# Altium footprint library Transistors.PcbLib: 36 footprints (part 3 of 3)
Each footprint in its own frame and in the unit in brackets; x right, y up, seen from the top. Pads: shape width x height; smd on the part's side, far side on the other; paste and mask are expansions set on the pad; w line width, h text height; cw(c..) or ccw(c..) is an arc to the next point about the centre after c.
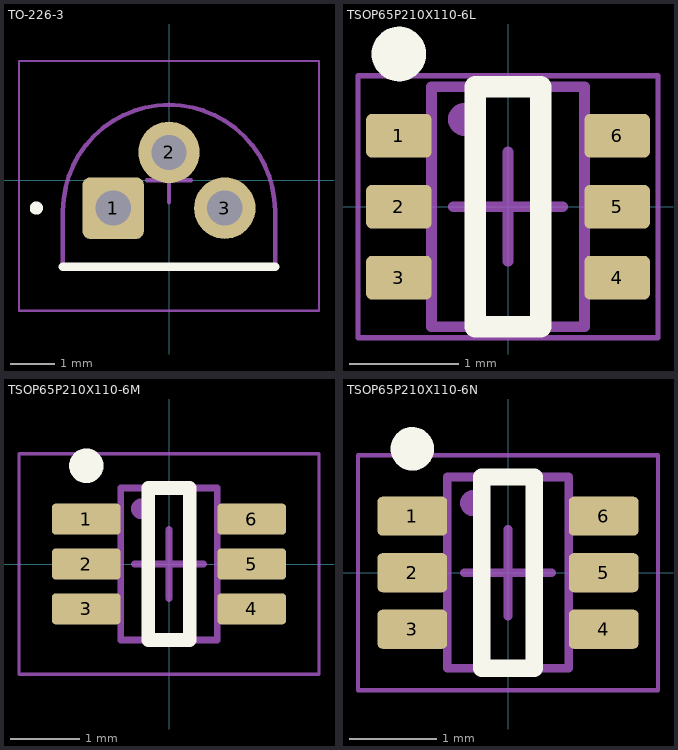
[diagram p2: the footprints below, top view; thin cyan lines are the x and y axes]

## TO-226-3 [mm] "Transistor Outline 3 Leads"
height 5.43
pads (3):
  rrect25% 1.4x1.4 hole 0.8 paste-1000 mask+0.05: 1(-1.27,-0.635)
  round 1.4 hole 0.8 paste-1000 mask+0.05: 2(0,0.635) 3(1.27,-0.635)
Top Overlay:
  lines w0.2: -2.415,-1.97 2.415,-1.97 ; -3.07,-0.635 cw(c-3.02,-0.635) -2.97,-0.635 ; -3.07,-0.635 ccw(c-3.02,-0.635) -2.97,-0.635 ; -3.07,-0.635 cw(c-3.02,-0.635) -2.97,-0.635
Top Component Outline:
  lines w0.1: -2.415,-1.97 0,-1.97 2.415,-1.97 2.415,-0.7 ccw(c0,-0.7) -2.415,-0.7 -2.415,-1.97
Top Courtyard:
  lines w0.05: -3.415,-2.97 3.415,-2.97 3.415,2.715 -3.415,2.715 -3.415,-2.97
Top Component Center:
  lines w0.1: -0.5,0 0.5,0 ; 0,-0.5 0,0.5
Top Designator:
  text ".Designator" at -4.04,-0.476 h2
Top Assembly:
  lines w0.1: -2.415,-1.97 0,-1.97 2.415,-1.97 2.415,-0.7 ccw(c0,-0.7) -2.415,-0.7 -2.415,-1.97
  text ".Designator" at -4.04,-0.476 h2
3D body "TO-226-3.step": height 5.43, standoff -5, extent -2.415,-1.97 2.415,1.715

## TSOP65P210X110-6L [mm] "TSOP, 6-Leads, Body 2.00x1.25mm, Pitch 0.65mm, IPC High Density"
height 1.1
pads (6):
  rrect25% 0.6x0.4 smd paste+0 mask+0.05: 1(-1,0.65) 2(-1,0) 3(-1,-0.65) 4(1,-0.65) 5(1,0) 6(1,0.65)
Top Overlay:
  circle w0.25: c-1,1.4 r0.125
  lines w0.2: -0.3,-1.1 -0.3,1.1 0.3,1.1 0.3,-1.1 -0.3,-1.1
Top Component Outline:
  lines w0.1: -0.7,-1.1 0.7,-1.1 0.7,1.1 -0.7,1.1 -0.7,-1.1
Top Courtyard:
  lines w0.05: -1.375,-1.2 -1.375,1.2 1.375,1.2 1.375,-1.2 -1.375,-1.2
Top Component Center:
  lines w0.1: -0.5,0 0.5,0 ; 0,-0.5 0,0.5
Top Designator:
  text ".Designator" at -4.04,-0.476 h2
Top Assembly:
  circle w0.2: c-0.4,0.8 r0.05
  lines w0.1: -0.7,-1.1 0.7,-1.1 0.7,1.1 -0.7,1.1 -0.7,-1.1
  text ".Designator" at -4.04,-0.476 h2
3D body "NEXPERIA_BC846S,115.step": height 0.95, standoff 0, extent -1.05,-1.1 1.05,1.05

## TSOP65P210X110-6M [mm] "TSOP, 6-Leads, Body 2.00x1.25mm, Pitch 0.65mm, IPC Low Density"
height 1.1
pads (6):
  rrect25% 1x0.45 smd paste+0 mask+0.05: 1(-1.2,0.65) 2(-1.2,0) 3(-1.2,-0.65) 4(1.2,-0.65) 5(1.2,0) 6(1.2,0.65)
Top Overlay:
  circle w0.25: c-1.2,1.425 r0.125
  lines w0.2: -0.3,-1.1 0.3,-1.1 0.3,1.1 -0.3,1.1 -0.3,-1.1
Top Component Outline:
  lines w0.1: -0.7,-1.1 0.7,-1.1 0.7,1.1 -0.7,1.1 -0.7,-1.1
Top Courtyard:
  lines w0.05: -2.175,-1.6 2.175,-1.6 2.175,1.6 -2.175,1.6 -2.175,-1.6
Top Component Center:
  lines w0.1: -0.5,0 0.5,0 ; 0,-0.5 0,0.5
Top Designator:
  text ".Designator" at -4.04,-0.476 h2
Top Assembly:
  circle w0.2: c-0.4,0.8 r0.05
  lines w0.1: -0.7,-1.1 0.7,-1.1 0.7,1.1 -0.7,1.1 -0.7,-1.1
  text ".Designator" at -4.04,-0.476 h2
3D body "NEXPERIA_BC846S,115.step": height 0.95, standoff 0, extent -1.05,-1.1 1.05,1.05

## TSOP65P210X110-6N [mm] "TSOP, 6-Leads, Body 2.00x1.25mm, Pitch 0.65mm, IPC Medium Density"
height 1.1
pads (6):
  rrect25% 0.8x0.45 smd paste+0 mask+0.05: 1(-1.1,0.65) 2(-1.1,0) 3(-1.1,-0.65) 4(1.1,-0.65) 5(1.1,0) 6(1.1,0.65)
Top Overlay:
  circle w0.25: c-1.1,1.425 r0.125
  lines w0.2: -0.3,-1.1 -0.3,1.1 0.3,1.1 0.3,-1.1 -0.3,-1.1
Top Component Outline:
  lines w0.1: -0.7,-1.1 -0.7,1.1 0.7,1.1 0.7,-1.1 -0.7,-1.1
Top Courtyard:
  lines w0.05: -1.725,-1.35 -1.725,1.35 1.725,1.35 1.725,-1.35 -1.725,-1.35
Top Component Center:
  lines w0.1: -0.5,0 0.5,0 ; 0,-0.5 0,0.5
Top Designator:
  text ".Designator" at -4.04,-0.476 h2
Top Assembly:
  circle w0.2: c-0.4,0.8 r0.05
  lines w0.1: -0.7,-1.1 -0.7,1.1 0.7,1.1 0.7,-1.1 -0.7,-1.1
  text ".Designator" at -4.04,-0.476 h2
3D body "NEXPERIA_BC846S,115.step": height 0.95, standoff 0, extent -1.05,-1.1 1.05,1.05